# EAGLE library part IV-9 (library iv9)
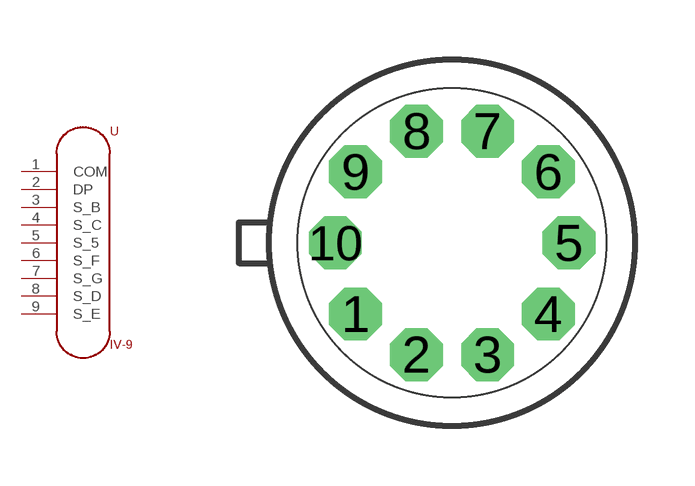
[diagram p0: symbol with the pads of TO100; footprint TO100]

Designator prefix -

## IV-9  [TO100]
1  COM
2  DP
3  S_B
4  S_C
5  S_5
6  S_F
7  S_G
8  S_D
9  S_E

## Footprint TO100 (pad centres in mm)
Metal Can Package
drill 0.813 octagon: 1 -2.413,-1.778; 2 -0.889,-2.794; 3 0.889,-2.794; 4 2.413,-1.778; 5 2.921,0; 6 2.413,1.778; 7 0.889,2.794; 8 -0.889,2.794; 9 -2.413,1.778; 10 -2.921,0